# Altium footprint library PcbLib5.1.PcbLib: 2 footprints
Each footprint in its own frame and in the unit in brackets; x right, y up, seen from the top. Pads: shape width x height; smd on the part's side, far side on the other; paste and mask are expansions set on the pad; w line width, h text height; cw(c..) or ccw(c..) is an arc to the next point about the centre after c.
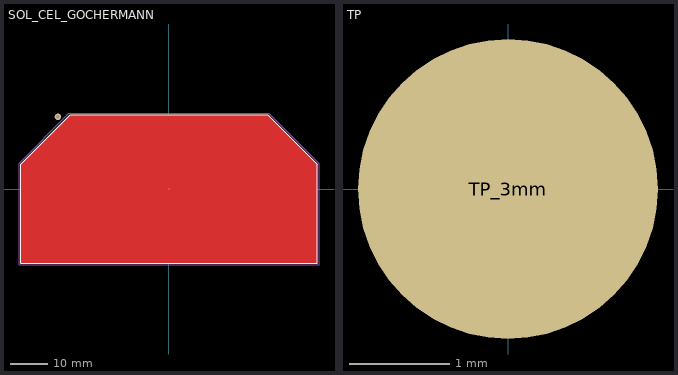
[diagram p0: the footprints below, top view; thin cyan lines are the x and y axes]

## SOL_CEL_GOCHERMANN [mm]
pads (2):
  round 1.75 hole 0.966: 6(-30,19.5)
  round 0.025 smd: +V_Cell(0,0)
Top Layer:
  region: -40,-20 -40,6.55 -26.55,20 26.55,20 40,6.55 40,-20
Top Overlay:
  lines w0.254: -40.075,-20.075 40.075,-20.075 40.075,6.675 26.675,20.075 -26.675,20.075 -40.075,6.675 -40.075,-20.075
Top Courtyard:
  lines w0.254: -23.5,20.5 -15.5,20.5 -3.5,20.5 4,20.5 16.25,20.5 24,20.5 27,20.5 40.5,7 40.5,-20.5 -40.5,-20.5 -40.5,7 -27,20.5 -23.5,20.5 ; -23.5,20.5 -23.5,20.5

## TP [mm]
pads (1):
  round 3 smd: TP_3mm(0,0)